# EAGLE library part RELE_G5V2 (library #PaJa_30)
RELE - 2x prepinaci, 5V, 12V, 24V max. spinany proud = 2A
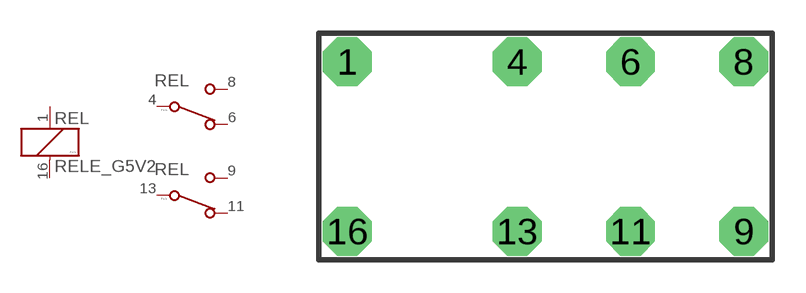
[diagram p19: symbol with the pads of REL_G5V2; footprint REL_G5V2]

Designator prefix REL; gates RE=RELE A=RELE_PRE B=RELE_PRE

## RELE_G5V2  [REL_G5V2]
1  RE:C1  pas
4  A:COM  pas
6  A:NC  pas
8  A:NO  pas
9  B:NO  pas
11  B:NC  pas
13  B:COM  pas
16  RE:C2  pas

## Footprint REL_G5V2 (pad centres in mm)
drill 0.813 pad 2.184 octagon: 1 -8.89,3.81; 4 -1.27,3.81; 6 3.81,3.81; 8 8.89,3.81; 9 8.89,-3.81; 11 3.81,-3.81; 13 -1.27,-3.81; 16 -8.89,-3.81